# Altium footprint library ELSMTD5h5.4.PcbLib: 1 footprints
Each footprint in its own frame and in the unit in brackets; x right, y up, seen from the top. Pads: shape width x height; smd on the part's side, far side on the other; paste and mask are expansions set on the pad; w line width, h text height; cw(c..) or ccw(c..) is an arc to the next point about the centre after c.
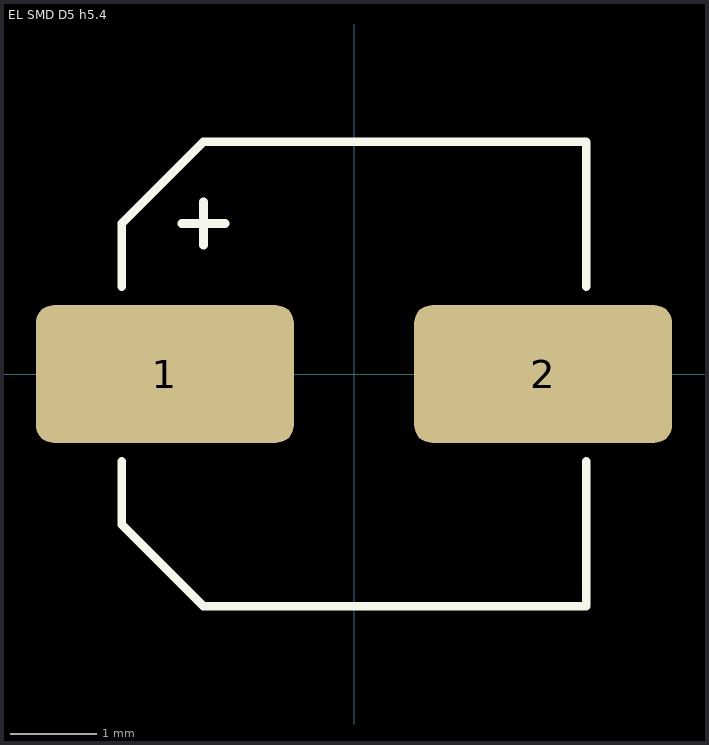
[diagram p0: the footprint, top view; thin cyan lines are the x and y axes]

## EL SMD D5 h5.4 [mm]
height 5.4
pads (2):
  rrect25% 3x1.6 smd mask+0.102: 1(-2.2,0) 2(2.2,0)
Top Overlay:
  lines w0.1: -2.7,-1.016 -2.7,-1.75 -1.75,-2.7 2.7,-2.7 2.7,-1.016 ; -2.7,1.016 -2.7,1.75 -1.75,2.7 2.7,2.7 2.7,1.016 ; -2,1.75 -1.5,1.75 ; -1.75,1.5 -1.75,2
3D body "Cap EL SMD D5 h5.4.STEP": height 5.8, standoff 0, extent -2.9,-2.65 2.9,2.65